# Altium integrated library ON Semi MOSFETs.IntLib: 1097 symbols (part 5 of 26)
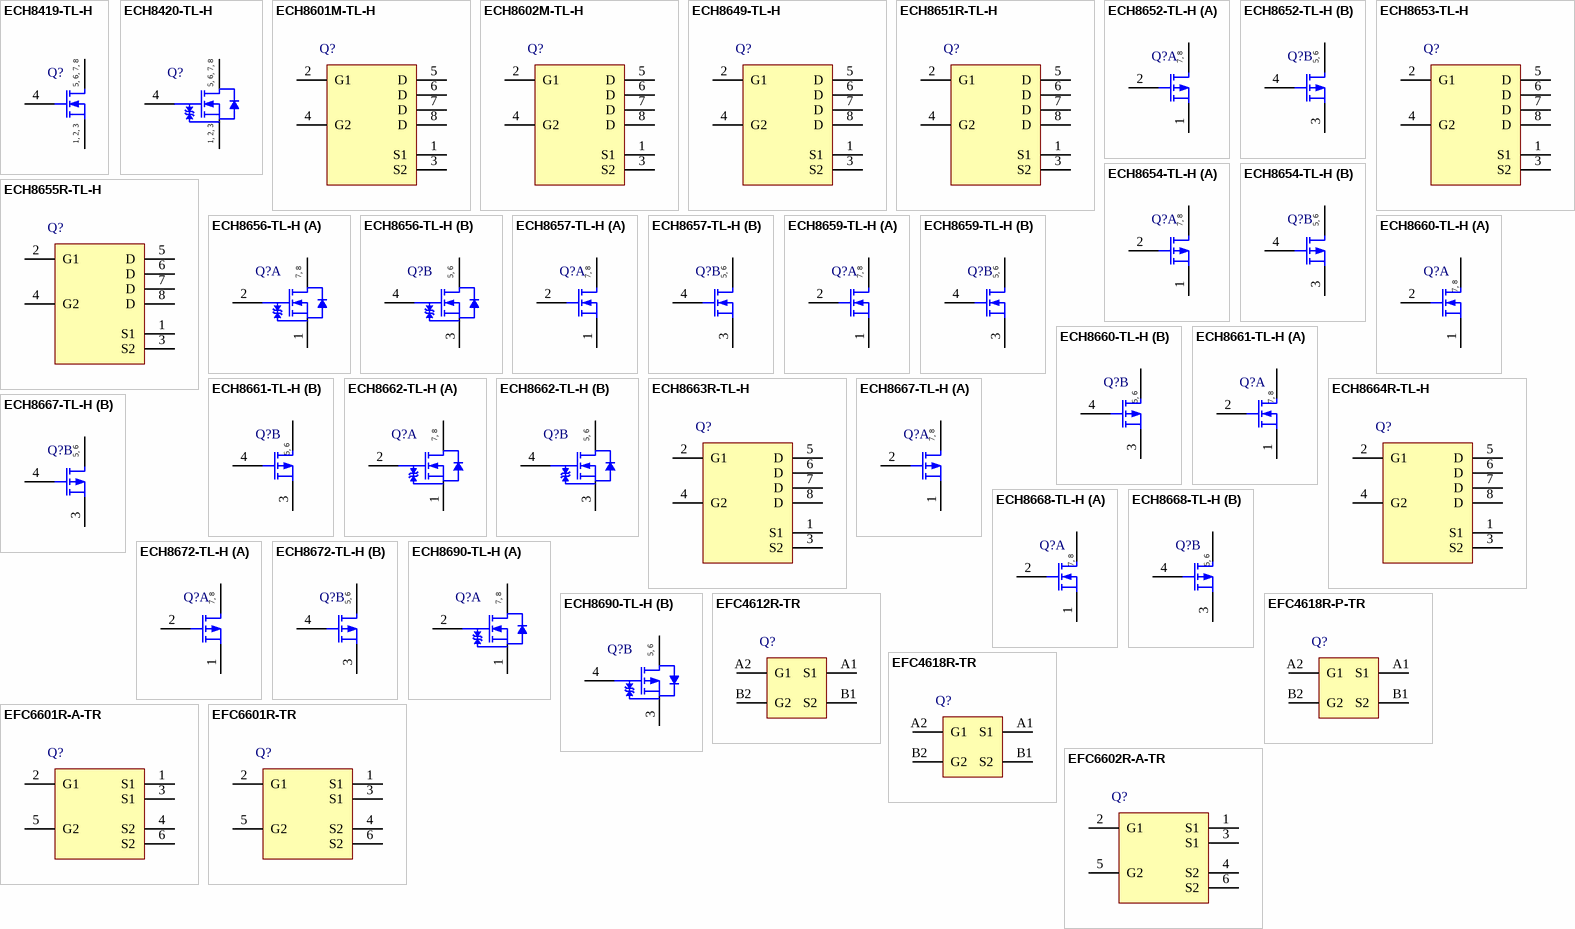
[diagram p35: symbols ECH8419-TL-H to EFC6602R-A-TR]

## ECH8653-TL-H
designator Q?
N-Channel Power MOSFET, 20 V, 7.5 A, 20 mOhm, Dual, 8-Pin ECH, Pb-Free, Tape and Reel; Manufacturer: On Semiconductor; PartNumber: ECH8653-TL-H; Channel Polarity: N Channel; Ciss Typ (pF): 1280; Coss Typ (pF): 170; Crss Typ (pF): 105; ID Max (A): 7.5; PD Max (W): 1.4; V(BR)DSS Min (V): 20; VGS Max (V): 10; VGS(th) Max (V): 2.4; PackageReference: ECH-8; PackageDescription: 8-Pin SOT23, Body 2.9 x 2.3 mm, Pitch 0.65 mm; Supplier 1: Digi-Key; Supplier Part Number 1: ECH8653-TL-H-ND; Supplier 2: Mouser; Supplier Part Number 2: 863-ECH8653-TL-H; Configuration: Dual; Package Type: SOT-28 FL / ECH-8; Packing: Tape and Reel; RoHS: Pb-Free; Mounting Technology: Surface Mount; ComponentLink1Description: Manufacturer URL; ComponentLink1URL: http://www.onsemi.com/; ComponentLink2Description: Datasheet; ComponentLink2URL: http://www.onsemi.com/pub_link/Collateral/ECH8653-D.PDF; ComponentLink3Description: Package Specification; ComponentLink3URL: http://www.onsemi.com/pub_link/Collateral/ECH8308-D.PDF
footprint ONSC-ECH-8_V (SOT23, 8-Leads, Body 2.9x2.3mm, Pitch 0.65mm)
pins: 1 S1, 2 G1, 3 S2, 4 G2, 5 D, 6 D, 7 D, 8 D

## ECH8654-TL-H
designator Q?
P-Channel Power MOSFET, -20 V, -5 A, 38 mOhm, Dual, 8-Pin ECH, Pb-Free, Tape and Reel; Manufacturer: On Semiconductor; PartNumber: ECH8654-TL-H; Channel Polarity: P Channel; Ciss Typ (pF): 960; Coss Typ (pF): 180; Crss Typ (pF): 140; ID Max (A): 5; PD Max (W): 1.3; V(BR)DSS Min (V): 20; VGS Max (V): 10; PackageReference: ECH-8; PackageDescription: 8-Pin SOT23, Body 2.9 x 2.3 mm, Pitch 0.65 mm; Supplier 1: Digi-Key; Supplier Part Number 1: 869-1159-2-ND; Supplier 2: Digi-Key; Supplier Part Number 2: 869-1159-1-ND; Supplier 3: Digi-Key; Supplier Part Number 3: 869-1159-6-ND; Supplier 4: Mouser; Supplier Part Number 4: 863-ECH8654-TL-H; Configuration: Dual; Package Type: SOT-28 FL / ECH-8; Packing: Tape and Reel; RoHS: Pb-Free; VGS(th) Max (V): 1.3; Mounting Technology: Surface Mount; ComponentLink1Description: Manufacturer URL; ComponentLink1URL: http://www.onsemi.com/; ComponentLink2Description: Datasheet; ComponentLink2URL: http://www.onsemi.com/pub_link/Collateral/ENA0981-D.PDF; ComponentLink3Description: Package Specification; ComponentLink3URL: http://www.onsemi.com/pub_link/Collateral/ECH8308-D.PDF
footprint ONSC-ECH-8_V (SOT23, 8-Leads, Body 2.9x2.3mm, Pitch 0.65mm)
part A pins: 1 S1, 2 G1, 7 D1, 8 D1
part B pins: 3 S2, 4 G2, 5 D2, 6 D2
part A text: 7, 8
part B text: 5, 6

## ECH8655R-TL-H
designator Q?
N-Channel Power MOSFET, 24 V, 9 A, 17 mOhm, Dual, 8-Pin ECH, Pb-Free, Tape and Reel; Manufacturer: On Semiconductor; PartNumber: ECH8655R-TL-H; Channel Polarity: N Channel; ID Max (A): 9; PD Max (W): 1.4; V(BR)DSS Min (V): 24; VGS Max (V): 12; VGS(th) Max (V): 1.3; PackageReference: ECH-8; PackageDescription: 8-Pin SOT23, Body 2.9 x 2.3 mm, Pitch 0.65 mm; Supplier 1: Digi-Key; Supplier Part Number 1: 869-1160-2-ND; Supplier 2: Digi-Key; Supplier Part Number 2: 869-1160-1-ND; Supplier 3: Digi-Key; Supplier Part Number 3: 869-1160-6-ND; Supplier 4: Mouser; Supplier Part Number 4: 863-ECH8655R-TL-H; Configuration: Dual; Package Type: SOT-28 FL / ECH-8; Packing: Tape and Reel; RoHS: Pb-Free; Mounting Technology: Surface Mount; ComponentLink1Description: Manufacturer URL; ComponentLink1URL: http://www.onsemi.com/; ComponentLink2Description: Datasheet; ComponentLink2URL: http://www.onsemi.com/pub_link/Collateral/ECH8655R-D.PDF; ComponentLink3Description: Package Specification; ComponentLink3URL: http://www.onsemi.com/pub_link/Collateral/ECH8308-D.PDF
footprint ONSC-ECH-8_V (SOT23, 8-Leads, Body 2.9x2.3mm, Pitch 0.65mm)
pins: 1 S1, 2 G1, 3 S2, 4 G2, 5 D, 6 D, 7 D, 8 D

## ECH8656-TL-H
designator Q?
N-Channel Power MOSFET, 20 V, 7.5 A, 17 mOhm, Dual, 8-Pin ECH, Pb-Free, Tape and Reel; Manufacturer: On Semiconductor; PartNumber: ECH8656-TL-H; Channel Polarity: N Channel; Ciss Typ (pF): 1060; Coss Typ (pF): 180; Crss Typ (pF): 135; ID Max (A): 7.5; PD Max (W): 1.3; V(BR)DSS Min (V): 20; VGS Max (V): 10; PackageReference: ECH-8; PackageDescription: 8-Pin SOT23, Body 2.9 x 2.3 mm, Pitch 0.65 mm; Supplier 1: Digi-Key; Supplier Part Number 1: ECH8656-TL-H-ND; Supplier 2: Mouser; Supplier Part Number 2: 863-ECH8656-TL-H; Configuration: Dual; Package Type: SOT-28 FL / ECH-8; Packing: Tape and Reel; RoHS: Pb-Free; VGS(th) Max (V): 1.3; Mounting Technology: Surface Mount; ComponentLink1Description: Manufacturer URL; ComponentLink1URL: http://www.onsemi.com/; ComponentLink2Description: Datasheet; ComponentLink2URL: http://www.onsemi.com/pub_link/Collateral/EN9010.PDF; ComponentLink3Description: Package Specification; ComponentLink3URL: http://www.onsemi.com/pub_link/Collateral/ECH8308-D.PDF
footprint ONSC-ECH-8_V (SOT23, 8-Leads, Body 2.9x2.3mm, Pitch 0.65mm)
part A pins: 1 S1, 2 G1, 7 D1, 8 D1
part B pins: 3 S2, 4 G2, 5 D2, 6 D2
part A text: 7, 8
part B text: 5, 6

## ECH8657-TL-H
designator Q?
N-Channel Power MOSFET, 35 V, 4.5 A, 59 mOhm, Dual, 8-Pin ECH, Pb-Free, Tape and Reel; Manufacturer: On Semiconductor; PartNumber: ECH8657-TL-H; Channel Polarity: N Channel; Ciss Typ (pF): 230; Coss Typ (pF): 37; Crss Typ (pF): 25; ID Max (A): 4.5; PD Max (W): 1.3; V(BR)DSS Min (V): 35; VGS Max (V): 20; VGS(th) Max (V): 2.6; PackageReference: ECH-8; PackageDescription: 8-Pin SOT23, Body 2.9 x 2.3 mm, Pitch 0.65 mm; Supplier 1: Digi-Key; Supplier Part Number 1: ECH8657-TL-H-ND; Supplier 2: Mouser; Supplier Part Number 2: 863-ECH8657-TL-H; Configuration: Dual; Package Type: SOT-28 FL / ECH-8; Packing: Tape and Reel; RoHS: Pb-Free; Mounting Technology: Surface Mount; ComponentLink1Description: Manufacturer URL; ComponentLink1URL: http://www.onsemi.com/; ComponentLink2Description: Datasheet; ComponentLink2URL: http://www.onsemi.com/pub_link/Collateral/ECH8657-D.PDF; ComponentLink3Description: Package Specification; ComponentLink3URL: http://www.onsemi.com/pub_link/Collateral/ECH8308-D.PDF
footprint ONSC-ECH-8_V (SOT23, 8-Leads, Body 2.9x2.3mm, Pitch 0.65mm)
part A pins: 1 S1, 2 G1, 7 D1, 8 D1
part B pins: 3 S2, 4 G2, 5 D2, 6 D2
part A text: 7, 8
part B text: 5, 6

## ECH8659-TL-H
designator Q?
N-Channel Power MOSFET, 30 V, 7 A, 24 mOhm, Dual, 8-Pin ECH, Pb-Free, Tape and Reel; Manufacturer: On Semiconductor; PartNumber: ECH8659-TL-H; Channel Polarity: N Channel; Ciss Typ (pF): 710; Coss Typ (pF): 120; Crss Typ (pF): 72; ID Max (A): 7; PD Max (W): 1.3; V(BR)DSS Min (V): 30; VGS Max (V): 20; VGS(th) Max (V): 2.6; PackageReference: ECH-8; PackageDescription: 8-Pin SOT23, Body 2.9 x 2.3 mm, Pitch 0.65 mm; Supplier 1: Digi-Key; Supplier Part Number 1: ECH8659-TL-H-ND; Supplier 2: Mouser; Supplier Part Number 2: 863-ECH8659-TL-H; Configuration: Dual; Package Type: SOT-28 FL / ECH-8; Packing: Tape and Reel; RoHS: Pb-Free; Mounting Technology: Surface Mount; ComponentLink1Description: Manufacturer URL; ComponentLink1URL: http://www.onsemi.com/; ComponentLink2Description: Datasheet; ComponentLink2URL: http://www.onsemi.com/pub_link/Collateral/ECH8659-D.PDF; ComponentLink3Description: Package Specification; ComponentLink3URL: http://www.onsemi.com/pub_link/Collateral/ECH8308-D.PDF
footprint ONSC-ECH-8_V (SOT23, 8-Leads, Body 2.9x2.3mm, Pitch 0.65mm)
part A pins: 1 S1, 2 G1, 7 D1, 8 D1
part B pins: 3 S2, 4 G2, 5 D2, 6 D2
part A text: 7, 8
part B text: 5, 6

## ECH8660-TL-H
designator Q?
Power MOSFET, 30 V, 4.5 A, 59 mOhm, -30 V, -4.5 A, 59 mOhm, Complementary Dual, 8-Pin ECH, Pb-Free, Tape and Reel; Manufacturer: On Semiconductor; PartNumber: ECH8660-TL-H; ID Max (A): 4.5; PD Max (W): 1.3; V(BR)DSS Min (V): 30; VGS Max (V): 20; PackageReference: ECH-8; PackageDescription: 8-Pin SOT23, Body 2.9 x 2.3 mm, Pitch 0.65 mm; Supplier 1: Digi-Key; Supplier Part Number 1: ECH8660-TL-H-ND; Supplier 2: Newark; Supplier Part Number 2: 52T7770; Supplier 3: Mouser; Supplier Part Number 3: 863-ECH8660-TL-H; Channel Polarity: Complementary; Configuration: Dual; Package Type: SOT-28 FL / ECH-8; Packing: Tape and Reel; RoHS: Pb-Free; Mounting Technology: Surface Mount; ComponentLink1Description: Manufacturer URL; ComponentLink1URL: http://www.onsemi.com/; ComponentLink2Description: Datasheet; ComponentLink2URL: http://www.onsemi.com/pub_link/Collateral/ECH8660-D.PDF; ComponentLink3Description: Package Specification; ComponentLink3URL: http://www.onsemi.com/pub_link/Collateral/ECH8308-D.PDF
footprint ONSC-ECH-8_V (SOT23, 8-Leads, Body 2.9x2.3mm, Pitch 0.65mm)
part A pins: 1 S1, 2 G1, 7 D1, 8 D1
part B pins: 3 S2, 4 G2, 5 D2, 6 D2
part A text: 7, 8
part B text: 5, 6

## ECH8661-TL-H
designator Q?
Power MOSFET, 30 V, 7 A, 24 mOhm, -30 V, -5.5 A, 39 mOhm, Complementary Dual, 8-Pin ECH, Pb-Free, Tape and Reel; Manufacturer: On Semiconductor; PartNumber: ECH8661-TL-H; PD Max (W): 1.3; V(BR)DSS Min (V): 30; VGS Max (V): 20; VGS(th) Max (V): 2.6; PackageReference: ECH-8; PackageDescription: 8-Pin SOT23, Body 2.9 x 2.3 mm, Pitch 0.65 mm; Supplier 1: Digi-Key; Supplier Part Number 1: ECH8661-TL-H-ND; Supplier 2: Mouser; Supplier Part Number 2: 863-ECH8661-TL-H; Channel Polarity: Complementary; Configuration: Dual; Package Type: SOT-28 FL / ECH-8; Packing: Tape and Reel; RoHS: Pb-Free; Mounting Technology: Surface Mount; ComponentLink1Description: Manufacturer URL; ComponentLink1URL: http://www.onsemi.com/; ComponentLink2Description: Datasheet; ComponentLink2URL: http://www.onsemi.com/pub_link/Collateral/ECH8661-D.PDF; ComponentLink3Description: Package Specification; ComponentLink3URL: http://www.onsemi.com/pub_link/Collateral/ECH8308-D.PDF
footprint ONSC-ECH-8_V (SOT23, 8-Leads, Body 2.9x2.3mm, Pitch 0.65mm)
part A pins: 1 S1, 2 G1, 7 D1, 8 D1
part B pins: 3 S2, 4 G2, 5 D2, 6 D2
part A text: 7, 8
part B text: 5, 6

## ECH8662-TL-H
designator Q?
N-Channel Power MOSFET, 40 V, 6.5 A, 30 mOhm, Dual, 8-Pin ECH, Pb-Free, Tape and Reel; Manufacturer: On Semiconductor; PartNumber: ECH8662-TL-H; Channel Polarity: N Channel; Ciss Typ (pF): 1130; Coss Typ (pF): 77; Crss Typ (pF): 60; ID Max (A): 6.5; PD Max (W): 1.3; V(BR)DSS Min (V): 40; VGS Max (V): 10; PackageReference: ECH-8; PackageDescription: 8-Pin SOT23, Body 2.9 x 2.3 mm, Pitch 0.65 mm; Supplier 1: Digi-Key; Supplier Part Number 1: ECH8662-TL-H-ND; Supplier 2: Mouser; Supplier Part Number 2: 863-ECH8662-TL-H; Configuration: Dual; Package Type: SOT-28 FL / ECH-8; Packing: Tape and Reel; RoHS: Pb-Free; VGS(th) Max (V): 1.3; Mounting Technology: Surface Mount; ComponentLink1Description: Manufacturer URL; ComponentLink1URL: http://www.onsemi.com/; ComponentLink2Description: Datasheet; ComponentLink2URL: http://www.onsemi.com/pub_link/Collateral/ECH8662-D.PDF; ComponentLink3Description: Package Specification; ComponentLink3URL: http://www.onsemi.com/pub_link/Collateral/ECH8308-D.PDF
footprint ONSC-ECH-8_V (SOT23, 8-Leads, Body 2.9x2.3mm, Pitch 0.65mm)
part A pins: 1 S1, 2 G1, 7 D1, 8 D1
part B pins: 3 S2, 4 G2, 5 D2, 6 D2
part A text: 7, 8
part B text: 5, 6

## ECH8663R-TL-H
designator Q?
N-Channel Power MOSFET, 30 V, 8 A, 20.5 mOhm, Dual, 8-Pin ECH, Pb-Free, Tape and Reel; Manufacturer: On Semiconductor; PartNumber: ECH8663R-TL-H; Channel Polarity: N Channel; ID Max (A): 8; PD Max (W): 1.4; V(BR)DSS Min (V): 30; VGS Max (V): 12; VGS(th) Max (V): 1.3; PackageReference: ECH-8; PackageDescription: 8-Pin SOT23, Body 2.9 x 2.3 mm, Pitch 0.65 mm; Supplier 1: Digi-Key; Supplier Part Number 1: ECH8663R-TL-H-ND; Supplier 2: Mouser; Supplier Part Number 2: 863-ECH8663R-TL-H; Configuration: Dual; Package Type: SOT-28 FL / ECH-8; Packing: Tape and Reel; RoHS: Pb-Free; Mounting Technology: Surface Mount; ComponentLink1Description: Manufacturer URL; ComponentLink1URL: http://www.onsemi.com/; ComponentLink2Description: Datasheet; ComponentLink2URL: http://www.onsemi.com/pub_link/Collateral/ENA1184-D.PDF; ComponentLink3Description: Package Specification; ComponentLink3URL: http://www.onsemi.com/pub_link/Collateral/ECH8308-D.PDF
footprint ONSC-ECH-8_V (SOT23, 8-Leads, Body 2.9x2.3mm, Pitch 0.65mm)
pins: 1 S1, 2 G1, 3 S2, 4 G2, 5 D, 6 D, 7 D, 8 D

## ECH8664R-TL-H
designator Q?
N-Channel Power MOSFET, 30 V, 7 A, 23.5 mOhm, Dual, 8-Pin ECH, Pb-Free, Tape and Reel; Manufacturer: On Semiconductor; PartNumber: ECH8664R-TL-H; Channel Polarity: N Channel; ID Max (A): 7; PD Max (W): 1.3; V(BR)DSS Min (V): 30; VGS Max (V): 12; PackageReference: ECH-8; PackageDescription: 8-Pin SOT23, Body 2.9 x 2.3 mm, Pitch 0.65 mm; Supplier 1: Digi-Key; Supplier Part Number 1: ECH8664R-TL-H-ND; Supplier 2: Mouser; Supplier Part Number 2: 863-ECH8664R-TL-H; Configuration: Dual; Package Type: SOT-28 FL / ECH-8; Packing: Tape and Reel; RoHS: Pb-Free; VGS(th) Max (V): 1.3; Mounting Technology: Surface Mount; ComponentLink1Description: Manufacturer URL; ComponentLink1URL: http://www.onsemi.com/; ComponentLink2Description: Datasheet; ComponentLink2URL: http://www.onsemi.com/pub_link/Collateral/ENA1185-D.PDF; ComponentLink3Description: Package Specification; ComponentLink3URL: http://www.onsemi.com/pub_link/Collateral/ECH8308-D.PDF
footprint ONSC-ECH-8_V (SOT23, 8-Leads, Body 2.9x2.3mm, Pitch 0.65mm)
pins: 1 S1, 2 G1, 3 S2, 4 G2, 5 D, 6 D, 7 D, 8 D

## ECH8667-TL-H
designator Q?
P-Channel Power MOSFET, -30 V, -5.5 A, 39 mOhm, Dual, 8-Pin ECH, Pb-Free, Tape and Reel; Manufacturer: On Semiconductor; PartNumber: ECH8667-TL-H; Channel Polarity: P Channel; Ciss Typ (pF): 600; Coss Typ (pF): 145; Crss Typ (pF): 110; ID Max (A): 5.5; PD Max (W): 1.3; V(BR)DSS Min (V): 30; VGS Max (V): 20; VGS(th) Max (V): 2.6; PackageReference: ECH-8; PackageDescription: 8-Pin SOT23, Body 2.9 x 2.3 mm, Pitch 0.65 mm; Supplier 1: Digi-Key; Supplier Part Number 1: ECH8667-TL-H-ND; Supplier 2: Mouser; Supplier Part Number 2: 863-ECH8667-TL-H; Configuration: Dual; Package Type: SOT-28 FL / ECH-8; Packing: Tape and Reel; RoHS: Pb-Free; Mounting Technology: Surface Mount; ComponentLink1Description: Manufacturer URL; ComponentLink1URL: http://www.onsemi.com/; ComponentLink2Description: Datasheet; ComponentLink2URL: http://www.onsemi.com/pub_link/Collateral/ECH8667-D.PDF; ComponentLink3Description: Package Specification; ComponentLink3URL: http://www.onsemi.com/pub_link/Collateral/ECH8308-D.PDF
footprint ONSC-ECH-8_V (SOT23, 8-Leads, Body 2.9x2.3mm, Pitch 0.65mm)
part A pins: 1 S1, 2 G1, 7 D1, 8 D1
part B pins: 3 S2, 4 G2, 5 D2, 6 D2
part A text: 7, 8
part B text: 5, 6

## ECH8668-TL-H
designator Q?
Power MOSFET, 20 V, 7.5 A, 17 mOhm, -20 V, -5 A, 38 mOhm, Complementary Dual, 8-Pin ECH, Pb-Free, Tape and Reel; Manufacturer: On Semiconductor; PartNumber: ECH8668-TL-H; PD Max (W): 1.3; V(BR)DSS Min (V): 20; VGS Max (V): 10; PackageReference: ECH-8; PackageDescription: 8-Pin SOT23, Body 2.9 x 2.3 mm, Pitch 0.65 mm; Supplier 1: Digi-Key; Supplier Part Number 1: ECH8668-TL-H-ND; Supplier 2: Mouser; Supplier Part Number 2: 863-ECH8668-TL-H; Channel Polarity: Complementary; Configuration: Dual; Package Type: SOT-28 FL / ECH-8; Packing: Tape and Reel; RoHS: Pb-Free; VGS(th) Max (V): 1.3; Mounting Technology: Surface Mount; ComponentLink1Description: Manufacturer URL; ComponentLink1URL: http://www.onsemi.com/; ComponentLink2Description: Datasheet; ComponentLink2URL: http://www.onsemi.com/pub_link/Collateral/ECH8668-D.PDF; ComponentLink3Description: Package Specification; ComponentLink3URL: http://www.onsemi.com/pub_link/Collateral/ECH8308-D.PDF
footprint ONSC-ECH-8_V (SOT23, 8-Leads, Body 2.9x2.3mm, Pitch 0.65mm)
part A pins: 1 S1, 2 G1, 7 D1, 8 D1
part B pins: 3 S2, 4 G2, 5 D2, 6 D2
part A text: 7, 8
part B text: 5, 6

## ECH8672-TL-H
designator Q?
P-Channel Power MOSFET, -20 V, -3.5 A, 85 mOhm, Dual, 8-Pin ECH, Pb-Free, Tape and Reel; Manufacturer: On Semiconductor; PartNumber: ECH8672-TL-H; Channel Polarity: P Channel; Ciss Typ (pF): 320; Coss Typ (pF): 66; Crss Typ (pF): 50; ID Max (A): 3.5; PD Max (W): 1.3; V(BR)DSS Min (V): 20; VGS Max (V): 10; PackageReference: ECH-8; PackageDescription: 8-Pin SOT23, Body 2.9 x 2.3 mm, Pitch 0.65 mm; Supplier 1: Digi-Key; Supplier Part Number 1: ECH8672-TL-H-ND; Supplier 2: Mouser; Supplier Part Number 2: 863-ECH8672-TL-H; Configuration: Dual; Package Type: SOT-28 FL / ECH-8; Packing: Tape and Reel; RoHS: Pb-Free; VGS(th) Max (V): 1.3; Mounting Technology: Surface Mount; ComponentLink1Description: Manufacturer URL; ComponentLink1URL: http://www.onsemi.com/; ComponentLink2Description: Datasheet; ComponentLink2URL: http://www.onsemi.com/pub_link/Collateral/ENA1465-D.PDF; ComponentLink3Description: Package Specification; ComponentLink3URL: http://www.onsemi.com/pub_link/Collateral/ECH8308-D.PDF
footprint ONSC-ECH-8_V (SOT23, 8-Leads, Body 2.9x2.3mm, Pitch 0.65mm)
part A pins: 1 S1, 2 G1, 7 D1, 8 D1
part B pins: 3 S2, 4 G2, 5 D2, 6 D2
part A text: 7, 8
part B text: 5, 6

## ECH8690-TL-H
designator Q?
Power MOSFET, 60 V, 4.7 A, 55 mOhm -60 V, -3.5 A, 94 mOhm Complememtary Dual, 8-Pin ECH, Pb-Free, Tape and Reel; Manufacturer: On Semiconductor; PartNumber: ECH8690-TL-H; Channel Polarity: Complementary; PD Max (W): 1.5; V(BR)DSS Min (V): 60; VGS Max (V): 20; VGS(th) Max (V): 2.6; PackageReference: ECH-8; PackageDescription: 8-Pin SOT23, Body 2.9 x 2.3 mm, Pitch 0.65 mm; Supplier 1: Newark; Supplier Part Number 1: 97W4990; Supplier 2: Mouser; Supplier Part Number 2: 863-ECH8690-TL-H; Configuration: Dual; Package Type: SOT-28 FL / ECH-8; Packing: Tape and Reel; RoHS: Pb-Free; Mounting Technology: Surface Mount; ComponentLink1Description: Manufacturer URL; ComponentLink1URL: http://www.onsemi.com/; ComponentLink2Description: Datasheet; ComponentLink2URL: http://www.onsemi.com/pub_link/Collateral/ENA2185-D.PDF; ComponentLink3Description: Package Specification; ComponentLink3URL: http://www.onsemi.com/pub_link/Collateral/ECH8308-D.PDF
footprint ONSC-ECH-8_V (SOT23, 8-Leads, Body 2.9x2.3mm, Pitch 0.65mm)
part A pins: 1 S1, 2 G1, 7 D1, 8 D1
part B pins: 3 S2, 4 G2, 5 D2, 6 D2
part A text: 7, 8
part B text: 5, 6

## EFC4612R-TR
designator Q?
N-Channel Power MOSFET, 24 V, 6 A, 45 mOhm, 4-Pin EFCP, Pb-Free, Tape and Reel; Manufacturer: On Semiconductor; PartNumber: EFC4612R-TR; Channel Polarity: N Channel; Configuration: Dual; V(BR)DSS Min (V): 24; VGS Max (V): 12; VGS(th) Max (V): 1.3; PackageVersion: Rev. O, 02/2012; PackageReference: EFCP1313-4CC-037-4-567DP; PackageDescription: 4-Ball Wafer Level Chip Scale Package, Body 1.26 x 1.26 mm, Pitch 0.65 mm; Supplier 1: Digi-Key; Supplier Part Number 1: EFC4612R-TR-ND; Supplier 2: Newark; Supplier Part Number 2: 65T1221; Supplier 3: Mouser; Supplier Part Number 3: 863-EFC4612R-TR; Package Type: WLCSP-4; Packing: Tape and Reel; RoHS: Pb-Free; Mounting Technology: Surface Mount; ComponentLink1Description: Manufacturer URL; ComponentLink1URL: http://www.onsemi.com/; ComponentLink2Description: Datasheet; ComponentLink2URL: http://www.onsemi.com/pub_link/Collateral/ENA1477-D.PDF; ComponentLink3Description: Package Specification; ComponentLink3URL: http://www.onsemi.com/pub_link/Collateral/567DP.PDF
footprint ONSC-EFCP1313-4CC-037-4-567DP (BGA, 4-Balls, Body 1.26x1.26mm, Pitch 0.65mm)
pins: A1 S1, A2 G1, B1 S2, B2 G2

## EFC4618R-P-TR
designator Q?
N-Channel Power MOSFET, 24 V, 6 A, 23 mOhm, 4-Pin EFCP, Pb-Free, Tape and Reel; Manufacturer: On Semiconductor; PartNumber: EFC4618R-P-TR; Channel Polarity: N Channel; Configuration: Dual; VGS Max (V): 12; VGS(th) Max (V): 1.3; PackageVersion: Rev. O, 02/2012; PackageReference: EFCP1818-4CC-037-4-567DK; PackageDescription: 4-Ball Wafer Level Chip Scale Package, Body 1.81 x 1.81 mm, Pitch 0.65 mm; Supplier 1: Mouser; Supplier Part Number 1: 863-EFC4618R-P-TR; Package Type: WLCSP-4; Packing: Tape and Reel; RoHS: Pb-Free; Mounting Technology: Surface Mount; ComponentLink1Description: Manufacturer URL; ComponentLink1URL: http://www.onsemi.com/; ComponentLink2Description: Datasheet; ComponentLink2URL: http://www.onsemi.com/pub_link/Collateral/ENA1123A-D.PDF; ComponentLink3Description: Package Specification; ComponentLink3URL: http://www.onsemi.com/pub_link/Collateral/567DK.PDF
footprint ONSC-EFCP1818-4CC-037-4-567DK_V (BGA, 4-Balls, Body 1.81x1.81mm, Pitch 0.65mm)
pins: A1 S1, A2 G1, B1 S2, B2 G2

## EFC4618R-TR
designator Q?
N-Channel Power MOSFET, 24 V, 6 A, 23 mOhm, 4-Pin EFCP, Pb-Free, Tape and Reel; Manufacturer: On Semiconductor; PartNumber: EFC4618R-TR; Channel Polarity: N Channel; Configuration: Dual; VGS Max (V): 12; VGS(th) Max (V): 1.3; PackageVersion: Rev. O, 02/2012; PackageReference: EFCP1818-4CC-037-4-567DK; PackageDescription: 4-Ball Wafer Level Chip Scale Package, Body 1.81 x 1.81 mm, Pitch 0.65 mm; Supplier 1: Digi-Key; Supplier Part Number 1: EFC4618R-TR-ND; Supplier 2: Mouser; Supplier Part Number 2: 863-EFC4618R-TR; Package Type: WLCSP-4; Packing: Tape and Reel; RoHS: Pb-Free; Mounting Technology: Surface Mount; ComponentLink1Description: Manufacturer URL; ComponentLink1URL: http://www.onsemi.com/; ComponentLink2Description: Datasheet; ComponentLink2URL: http://www.onsemi.com/pub_link/Collateral/ENA1123A-D.PDF; ComponentLink3Description: Package Specification; ComponentLink3URL: http://www.onsemi.com/pub_link/Collateral/567DK.PDF
footprint ONSC-EFCP1818-4CC-037-4-567DK_V (BGA, 4-Balls, Body 1.81x1.81mm, Pitch 0.65mm)
pins: A1 S1, A2 G1, B1 S2, B2 G2

## EFC6601R-A-TR
designator Q?
N-Channel Power MOSFET, 24 V, 13 A, 11.5 mOhm, 6-Pin EFCP, Pb-Free, Tape and Reel; Manufacturer: On Semiconductor; PartNumber: EFC6601R-A-TR; Channel Polarity: N Channel; Configuration: Dual; VGS Max (V): 12; VGS(th) Max (V): 1.3; PackageVersion: Rev. O, 05/2012; PackageReference: EFCP2718-6CE-020-6-567FK; PackageDescription: 6-Ball Wafer Level Chip Scale Package, Body 2.7 x 1.81 mm, Pitch 0.65 mm; Supplier 1: Newark; Supplier Part Number 1: 56W5203; Supplier 2: Mouser; Supplier Part Number 2: 863-EFC6601R-A-TR; Package Type: WLCSP-6; Packing: Tape and Reel; RoHS: Pb-Free; Mounting Technology: Surface Mount; ComponentLink1Description: Manufacturer URL; ComponentLink1URL: http://www.onsemi.com/; ComponentLink2Description: Datasheet; ComponentLink2URL: http://www.onsemi.com/pub_link/Collateral/ENA2151-D.PDF; ComponentLink3Description: Package Specification; ComponentLink3URL: http://www.onsemi.com/pub_link/Collateral/ENA2152-D.PDF
footprint ONSC-EFCP2718-6CE-020-6-567FK (BGA, 6-Balls, Body 2.7x1.81mm, Pitch 0.65mm)
pins: 1 S1, 2 G1, 3 S1, 4 S2, 5 G2, 6 S2

## EFC6601R-TR
designator Q?
N-Channel Power MOSFET, 24 V, 13 A, 11.5 mOhm, 6-Pin EFCP, Pb-Free, Tape and Reel; Manufacturer: On Semiconductor; PartNumber: EFC6601R-TR; Channel Polarity: N Channel; Configuration: Dual; VGS Max (V): 12; VGS(th) Max (V): 1.3; PackageVersion: Rev. O, 05/2012; PackageReference: EFCP2718-6CE-020-6-567FK; PackageDescription: 6-Ball Wafer Level Chip Scale Package, Body 2.7 x 1.81 mm, Pitch 0.65 mm; Supplier 1: Newark; Supplier Part Number 1: 56W5204; Supplier 2: Mouser; Supplier Part Number 2: 863-EFC6601R-TR; Package Type: WLCSP-6; Packing: Tape and Reel; RoHS: Pb-Free; Mounting Technology: Surface Mount; ComponentLink1Description: Manufacturer URL; ComponentLink1URL: http://www.onsemi.com/; ComponentLink2Description: Datasheet; ComponentLink2URL: http://www.onsemi.com/pub_link/Collateral/ENA2151-D.PDF; ComponentLink3Description: Package Specification; ComponentLink3URL: http://www.onsemi.com/pub_link/Collateral/ENA2152-D.PDF
footprint ONSC-EFCP2718-6CE-020-6-567FK (BGA, 6-Balls, Body 2.7x1.81mm, Pitch 0.65mm)
pins: 1 S1, 2 G1, 3 S1, 4 S2, 5 G2, 6 S2

## EFC6602R-A-TR
designator Q?
N-Channel Power MOSFET, 12 V, 18 A, 5.9 mOhm, 6-Pin EFCP, Pb-Free, Tape and Reel; Manufacturer: On Semiconductor; PartNumber: EFC6602R-A-TR; Channel Polarity: N Channel; Configuration: Dual; VGS Max (V): 12; VGS(th) Max (V): 1.3; PackageVersion: Rev. O, 05/2012; PackageReference: EFCP2718-6CE-020-6-567FK; PackageDescription: 6-Ball Wafer Level Chip Scale Package, Body 2.7 x 1.81 mm, Pitch 0.65 mm; Supplier 1: Newark; Supplier Part Number 1: 56W5205; Supplier 2: Mouser; Supplier Part Number 2: 863-EFC6602R-A-TR; Package Type: WLCSP-6; Packing: Tape and Reel; RoHS: Pb-Free; Mounting Technology: Surface Mount; ComponentLink1Description: Manufacturer URL; ComponentLink1URL: http://www.onsemi.com/; ComponentLink2Description: Datasheet; ComponentLink2URL: http://www.onsemi.com/pub_link/Collateral/ENA2152-D.PDF; ComponentLink3Description: Package Specification; ComponentLink3URL: http://www.onsemi.com/pub_link/Collateral/ENA2152-D.PDF
footprint ONSC-EFCP2718-6CE-020-6-567FK (BGA, 6-Balls, Body 2.7x1.81mm, Pitch 0.65mm)
pins: 1 S1, 2 G1, 3 S1, 4 S2, 5 G2, 6 S2

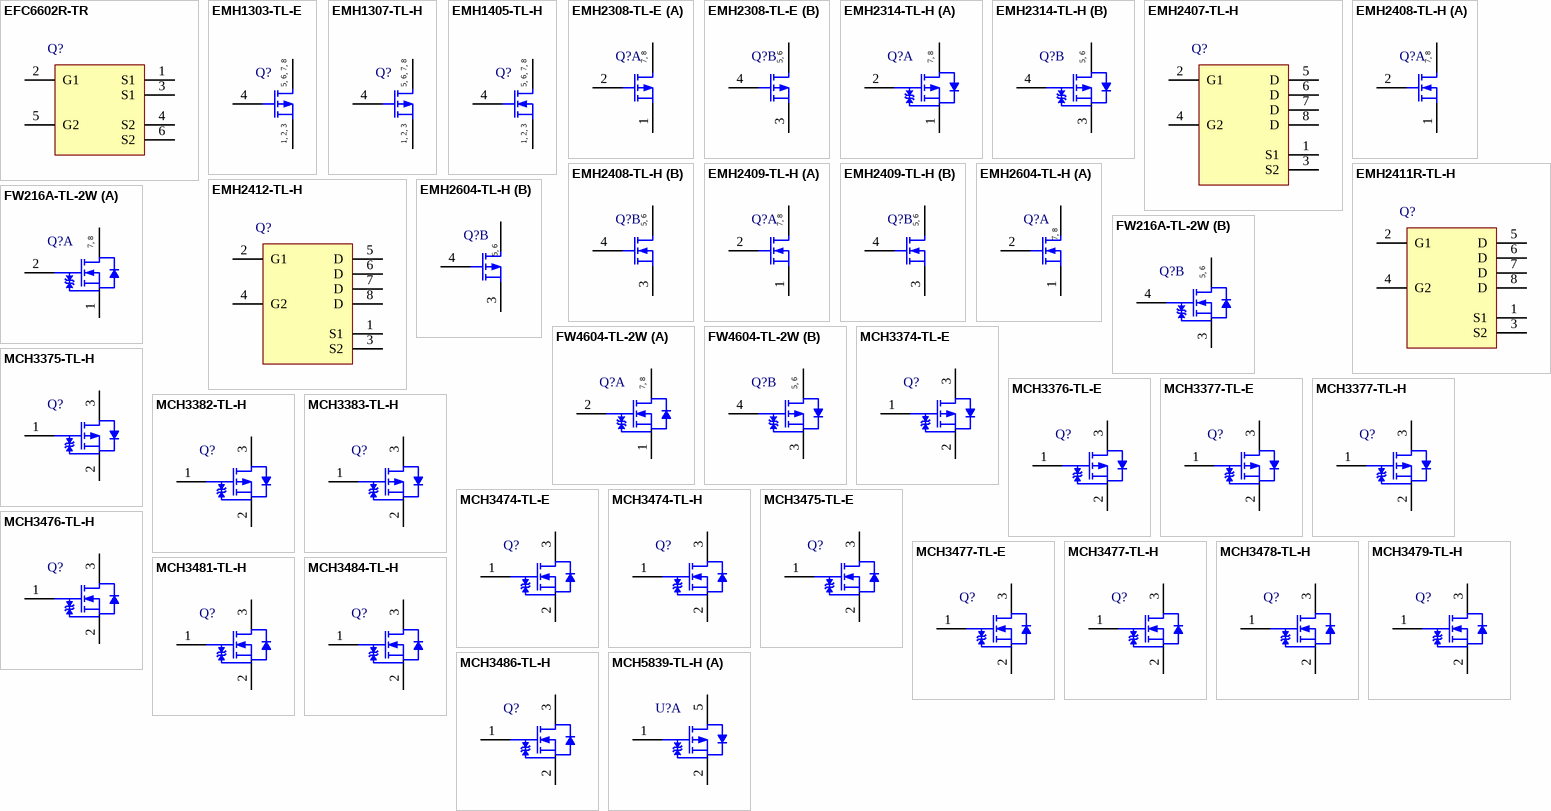
[diagram p5: symbols EFC6602R-TR to MCH5839-TL-H]

## EFC6602R-TR
designator Q?
N-Channel Power MOSFET, 12 V, 18 A, 5.9 mOhm, 6-Pin EFCP, Pb-Free, Tape and Reel; Manufacturer: On Semiconductor; PartNumber: EFC6602R-TR; Channel Polarity: N Channel; Configuration: Dual; VGS Max (V): 12; VGS(th) Max (V): 1.3; PackageVersion: Rev. O, 05/2012; PackageReference: EFCP2718-6CE-020-6-567FK; PackageDescription: 6-Ball Wafer Level Chip Scale Package, Body 2.7 x 1.81 mm, Pitch 0.65 mm; Supplier 1: Newark; Supplier Part Number 1: 45W8151; Supplier 2: Mouser; Supplier Part Number 2: 863-EFC6602R-TR; Package Type: WLCSP-6; Packing: Tape and Reel; RoHS: Pb-Free; Mounting Technology: Surface Mount; ComponentLink1Description: Manufacturer URL; ComponentLink1URL: http://www.onsemi.com/; ComponentLink2Description: Datasheet; ComponentLink2URL: http://www.onsemi.com/pub_link/Collateral/ENA2152-D.PDF; ComponentLink3Description: Package Specification; ComponentLink3URL: http://www.onsemi.com/pub_link/Collateral/ENA2152-D.PDF
footprint ONSC-EFCP2718-6CE-020-6-567FK (BGA, 6-Balls, Body 2.7x1.81mm, Pitch 0.65mm)
pins: 1 S1, 2 G1, 3 S1, 4 S2, 5 G2, 6 S2

## EMH1303-TL-E
designator Q?
P-Channel Power MOSFET, -12 V, -7 A, 23 mOhm, 8-Pin EMH, Pb-Free, Tape and Reel; Manufacturer: On Semiconductor; PartNumber: EMH1303-TL-E; Channel Polarity: P Channel; Ciss Typ (pF): 1100; Configuration: Single; Coss Typ (pF): 350; Crss Typ (pF): 265; ID Max (A): 7; PD Max (W): 1.5; V(BR)DSS Min (V): 12; VGS Max (V): 10; VGS(th) Max (V): 1.2; PackageReference: EMH-8; PackageDescription: 8-Pin SOT23, Body 2 x 1.7 mm, Pitch 0.5 mm; Supplier 1: Digi-Key; Supplier Part Number 1: EMH1303-TL-E-ND; Supplier 2: Mouser; Supplier Part Number 2: 863-EMH1303-TL-E; Package Type: SOT-383FL / EMH-8; Packing: Tape and Reel; RoHS: Pb-Free; Mounting Technology: Surface Mount; ComponentLink1Description: Manufacturer URL; ComponentLink1URL: http://www.onsemi.com/; ComponentLink2Description: Datasheet; ComponentLink2URL: http://www.onsemi.com/pub_link/Collateral/EMH1303-D.PDF; ComponentLink3Description: Package Specification; ComponentLink3URL: http://www.onsemi.com/pub_link/Collateral/EMH1303-D.PDF
footprint ONSC-EMH-8_V (SOT23, 8-Leads, Body 2x1.7mm, Pitch 0.5mm)
pins: 1 S, 2 S, 3 S, 4 G, 5 D, 6 D, 7 D, 8 D
text: 5, 6, 7, 8; 1, 2, 3

## EMH1307-TL-H
designator Q?
P-Channel Power MOSFET, -20 V, -6.5 A, 26 mOhm, 8-Pin EMH, Pb-Free, Tape and Reel; Manufacturer: On Semiconductor; PartNumber: EMH1307-TL-H; Channel Polarity: P Channel; Ciss Typ (pF): 1100; Configuration: Single; Coss Typ (pF): 210; Crss Typ (pF): 160; ID Max (A): 6.5; PD Max (W): 1.5; V(BR)DSS Min (V): 20; VGS Max (V): 10; VGS(th) Max (V): 1.3; PackageReference: EMH-8; PackageDescription: 8-Pin SOT23, Body 2 x 1.7 mm, Pitch 0.5 mm; Supplier 1: Digi-Key; Supplier Part Number 1: EMH1307-TL-H-ND; Supplier 2: Mouser; Supplier Part Number 2: 863-EMH1307-TL-H; Package Type: SOT-383FL / EMH-8; Packing: Tape and Reel; RoHS: Pb-Free; Mounting Technology: Surface Mount; ComponentLink1Description: Manufacturer URL; ComponentLink1URL: http://www.onsemi.com/; ComponentLink2Description: Datasheet; ComponentLink2URL: http://www.onsemi.com/pub_link/Collateral/EMH1307-D.PDF; ComponentLink3Description: Package Specification; ComponentLink3URL: http://www.onsemi.com/pub_link/Collateral/EMH1303-D.PDF
footprint ONSC-EMH-8_V (SOT23, 8-Leads, Body 2x1.7mm, Pitch 0.5mm)
pins: 1 S, 2 S, 3 S, 4 G, 5 D, 6 D, 7 D, 8 D
text: 5, 6, 7, 8; 1, 2, 3

## EMH1405-TL-H
designator Q?
N-Channel Power MOSFET, 30 V, 8.5 A, 19 mOhm, 8-Pin EMH, Pb-Free, Tape and Reel; Manufacturer: On Semiconductor; PartNumber: EMH1405-TL-H; Channel Polarity: N Channel; Ciss Typ (pF): 820; Configuration: Single; Coss Typ (pF): 130; Crss Typ (pF): 90; ID Max (A): 8.5; PD Max (W): 1.5; V(BR)DSS Min (V): 30; VGS Max (V): 20; VGS(th) Max (V): 2.6; PackageReference: EMH-8; PackageDescription: 8-Pin SOT23, Body 2 x 1.7 mm, Pitch 0.5 mm; Supplier 1: Digi-Key; Supplier Part Number 1: EMH1405-TL-H-ND; Supplier 2: Mouser; Supplier Part Number 2: 863-EMH1405-TL-H; Package Type: SOT-383FL / EMH-8; Packing: Tape and Reel; RoHS: Pb-Free; Mounting Technology: Surface Mount; ComponentLink1Description: Manufacturer URL; ComponentLink1URL: http://www.onsemi.com/; ComponentLink2Description: Datasheet; ComponentLink2URL: http://www.onsemi.com/pub_link/Collateral/EMH1405-D.PDF; ComponentLink3Description: Package Specification; ComponentLink3URL: http://www.onsemi.com/pub_link/Collateral/EMH1303-D.PDF
footprint ONSC-EMH-8_V (SOT23, 8-Leads, Body 2x1.7mm, Pitch 0.5mm)
pins: 1 S, 2 S, 3 S, 4 G, 5 D, 6 D, 7 D, 8 D
text: 5, 6, 7, 8; 1, 2, 3

## EMH2308-TL-E
designator Q?
P-Channel Power MOSFET, -20 V, -3 A, 85 mOhm, 8-Pin EMH, Pb-Free, Tape and Reel; Manufacturer: On Semiconductor; PartNumber: EMH2308-TL-E; Channel Polarity: P Channel; Ciss Typ (pF): 320; Configuration: Dual; Coss Typ (pF): 66; Crss Typ (pF): 50; ID Max (A): 3; PD Max (W): 1; V(BR)DSS Min (V): 20; VGS Max (V): 10; VGS(th) Max (V): 1.3; PackageReference: EMH-8; PackageDescription: 8-Pin SOT23, Body 2 x 1.7 mm, Pitch 0.5 mm; Supplier 1: Digi-Key; Supplier Part Number 1: EMH2308-TL-E-ND; Supplier 2: Mouser; Supplier Part Number 2: 863-EMH2308-TL-E; Package Type: SOT-383FL / EMH-8; Packing: Tape and Reel; RoHS: Pb-Free; Mounting Technology: Surface Mount; ComponentLink1Description: Manufacturer URL; ComponentLink1URL: http://www.onsemi.com/; ComponentLink2Description: Datasheet; ComponentLink2URL: http://www.onsemi.com/pub_link/Collateral/EMH2308-D.PDF; ComponentLink3Description: Package Specification; ComponentLink3URL: http://www.onsemi.com/pub_link/Collateral/EMH1303-D.PDF
footprint ONSC-EMH-8_V (SOT23, 8-Leads, Body 2x1.7mm, Pitch 0.5mm)
part A pins: 1 S1, 2 G1, 7 D1, 8 D1
part B pins: 3 S2, 4 G2, 5 D2, 6 D2
part A text: 7, 8
part B text: 5, 6

## EMH2314-TL-H
designator Q?
P-Channel Power MOSFET, -12 V, -5 A, 37 mOhm, 8-Pin EMH, Pb-Free, Tape and Reel; Manufacturer: On Semiconductor; PartNumber: EMH2314-TL-H; Channel Polarity: P Channel; Ciss Typ (pF): 1300; Configuration: Dual; Coss Typ (pF): 158; Crss Typ (pF): 143; ID Max (A): 5; PD Max (W): 1; V(BR)DSS Min (V): 12; VGS Max (V): 10; VGS(th) Max (V): 1.3; PackageReference: EMH-8; PackageDescription: 8-Pin SOT23, Body 2 x 1.7 mm, Pitch 0.5 mm; Supplier 1: Digi-Key; Supplier Part Number 1: EMH2314-TL-H-ND; Supplier 2: Mouser; Supplier Part Number 2: 863-EMH2314-TL-H; Package Type: SOT-383FL / EMH-8; Packing: Tape and Reel; RoHS: Pb-Free; Mounting Technology: Surface Mount; ComponentLink1Description: Manufacturer URL; ComponentLink1URL: http://www.onsemi.com/; ComponentLink2Description: Datasheet; ComponentLink2URL: http://www.onsemi.com/pub_link/Collateral/EN8759-D.PDF; ComponentLink3Description: Package Specification; ComponentLink3URL: http://www.onsemi.com/pub_link/Collateral/EMH1303-D.PDF
footprint ONSC-EMH-8_V (SOT23, 8-Leads, Body 2x1.7mm, Pitch 0.5mm)
part A pins: 1 S1, 2 G1, 7 D1, 8 D1
part B pins: 3 S2, 4 G2, 5 D2, 6 D2
part A text: 7, 8
part B text: 5, 6

## EMH2407-TL-H
designator Q?
N-Channel Power MOSFET, 20 V, 6 A, 25 mOhm, 8-Pin EMH, Pb-Free, Tape and Reel; Manufacturer: On Semiconductor; PartNumber: EMH2407-TL-H; Channel Polarity: N Channel; Ciss Typ (pF): 580; Configuration: Dual; Coss Typ (pF): 95; Crss Typ (pF): 75; ID Max (A): 6; PD Max (W): 1.3; V(BR)DSS Min (V): 20; VGS Max (V): 12; PackageReference: EMH-8; PackageDescription: 8-Pin SOT23, Body 2 x 1.7 mm, Pitch 0.5 mm; Supplier 1: Digi-Key; Supplier Part Number 1: EMH2407-TL-H-ND; Supplier 2: Mouser; Supplier Part Number 2: 863-EMH2407-TL-H; Package Type: SOT-383FL / EMH-8; Packing: Tape and Reel; RoHS: Pb-Free; VGS(th) Max (V): 1.3; Mounting Technology: Surface Mount; ComponentLink1Description: Manufacturer URL; ComponentLink1URL: http://www.onsemi.com/; ComponentLink2Description: Datasheet; ComponentLink2URL: http://www.onsemi.com/pub_link/Collateral/ENA1141-D.PDF; ComponentLink3Description: Package Specification; ComponentLink3URL: http://www.onsemi.com/pub_link/Collateral/EMH1303-D.PDF
footprint ONSC-EMH-8_V (SOT23, 8-Leads, Body 2x1.7mm, Pitch 0.5mm)
pins: 1 S1, 2 G1, 3 S2, 4 G2, 5 D, 6 D, 7 D, 8 D

## EMH2408-TL-H
designator Q?
N-Channel Power MOSFET, 20 V, 4 A, 45 mOhm, 8-Pin EMH, Pb-Free, Tape and Reel; Manufacturer: On Semiconductor; PartNumber: EMH2408-TL-H; Channel Polarity: N Channel; Ciss Typ (pF): 345; Configuration: Dual; Coss Typ (pF): 67; Crss Typ (pF): 52; ID Max (A): 4; PD Max (W): 1; V(BR)DSS Min (V): 20; VGS Max (V): 12; VGS(th) Max (V): 1.3; PackageReference: EMH-8; PackageDescription: 8-Pin SOT23, Body 2 x 1.7 mm, Pitch 0.5 mm; Supplier 1: Digi-Key; Supplier Part Number 1: EMH2408-TL-H-ND; Supplier 2: Mouser; Supplier Part Number 2: 863-EMH2408-TL-H; Package Type: SOT-383FL / EMH-8; Packing: Tape and Reel; RoHS: Pb-Free; Mounting Technology: Surface Mount; ComponentLink1Description: Manufacturer URL; ComponentLink1URL: http://www.onsemi.com/; ComponentLink2Description: Datasheet; ComponentLink2URL: http://www.onsemi.com/pub_link/Collateral/EMH2408-D.PDF; ComponentLink3Description: Package Specification; ComponentLink3URL: http://www.onsemi.com/pub_link/Collateral/EMH1303-D.PDF
footprint ONSC-EMH-8_V (SOT23, 8-Leads, Body 2x1.7mm, Pitch 0.5mm)
part A pins: 1 S1, 2 G1, 7 D1, 8 D1
part B pins: 3 S2, 4 G2, 5 D2, 6 D2
part A text: 7, 8
part B text: 5, 6

## EMH2409-TL-H
designator Q?
N-Channel Power MOSFET, 30 V, 4 A, 59 mOhm, 8-Pin EMH, Pb-Free, Tape and Reel; Manufacturer: On Semiconductor; PartNumber: EMH2409-TL-H; Channel Polarity: N Channel; Ciss Typ (pF): 240; Configuration: Dual; Coss Typ (pF): 45; Crss Typ (pF): 30; ID Max (A): 4; PD Max (W): 1; VGS Max (V): 20; VGS(th) Max (V): 2.6; PackageReference: EMH-8; PackageDescription: 8-Pin SOT23, Body 2 x 1.7 mm, Pitch 0.5 mm; Supplier 1: Digi-Key; Supplier Part Number 1: EMH2409-TL-H-ND; Supplier 2: Mouser; Supplier Part Number 2: 863-EMH2409-TL-H; Package Type: SOT-383FL / EMH-8; Packing: Tape and Reel; RoHS: Pb-Free; V(BR)DSS Min (V): 30; Mounting Technology: Surface Mount; ComponentLink1Description: Manufacturer URL; ComponentLink1URL: http://www.onsemi.com/; ComponentLink2Description: Datasheet; ComponentLink2URL: http://www.onsemi.com/pub_link/Collateral/EMH2409-D.PDF; ComponentLink3Description: Package Specification; ComponentLink3URL: http://www.onsemi.com/pub_link/Collateral/EMH1303-D.PDF
footprint ONSC-EMH-8_V (SOT23, 8-Leads, Body 2x1.7mm, Pitch 0.5mm)
part A pins: 1 S1, 2 G1, 7 D1, 8 D1
part B pins: 3 S2, 4 G2, 5 D2, 6 D2
part A text: 7, 8
part B text: 5, 6

## EMH2411R-TL-H
designator Q?
N-Channel Power MOSFET, 30 V, 5 A, 36.5 Ohm, 8-Pin EMH, Pb-Free, Tape and Reel; Manufacturer: On Semiconductor; PartNumber: EMH2411R-TL-H; Channel Polarity: N Channel; Configuration: Dual; ID Max (A): 5; PD Max (W): 1.3; V(BR)DSS Min (V): 30; VGS Max (V): 12; PackageReference: EMH-8; PackageDescription: 8-Pin SOT23, Body 2 x 1.7 mm, Pitch 0.5 mm; Supplier 1: Digi-Key; Supplier Part Number 1: EMH2411R-TL-H-ND; Supplier 2: Mouser; Supplier Part Number 2: 863-EMH2411R-TL-H; Package Type: SOT-383FL / EMH-8; Packing: Tape and Reel; RoHS: Pb-Free; VGS(th) Max (V): 1.3; Mounting Technology: Surface Mount; ComponentLink1Description: Manufacturer URL; ComponentLink1URL: http://www.onsemi.com/; ComponentLink2Description: Datasheet; ComponentLink2URL: http://www.onsemi.com/pub_link/Collateral/ENA1421-D.PDF; ComponentLink3Description: Package Specification; ComponentLink3URL: http://www.onsemi.com/pub_link/Collateral/EMH1303-D.PDF
footprint ONSC-EMH-8_V (SOT23, 8-Leads, Body 2x1.7mm, Pitch 0.5mm)
pins: 1 S1, 2 G1, 3 S2, 4 G2, 5 D, 6 D, 7 D, 8 D

## EMH2412-TL-H
designator Q?
N-Channel Power MOSFET, 24 V, 6 A, 27 mOhm, 8-Pin EMH, Pb-Free, Tape and Reel; Manufacturer: On Semiconductor; PartNumber: EMH2412-TL-H; Channel Polarity: N Channel; Configuration: Dual; ID Max (A): 6; PD Max (W): 1.3; V(BR)DSS Min (V): 24; VGS Max (V): 12; PackageReference: EMH-8; PackageDescription: 8-Pin SOT23, Body 2 x 1.7 mm, Pitch 0.5 mm; Supplier 1: Digi-Key; Supplier Part Number 1: EMH2412-TL-H-ND; Supplier 2: Mouser; Supplier Part Number 2: 863-EMH2412-TL-H; Package Type: SOT-383FL / EMH-8; Packing: Tape and Reel; RoHS: Pb-Free; VGS(th) Max (V): 1.3; Mounting Technology: Surface Mount; ComponentLink1Description: Manufacturer URL; ComponentLink1URL: http://www.onsemi.com/; ComponentLink2Description: Datasheet; ComponentLink2URL: http://www.onsemi.com/pub_link/Collateral/EMH2412-D.PDF; ComponentLink3Description: Package Specification; ComponentLink3URL: http://www.onsemi.com/pub_link/Collateral/EMH1303-D.PDF
footprint ONSC-EMH-8_V (SOT23, 8-Leads, Body 2x1.7mm, Pitch 0.5mm)
pins: 1 S1, 2 G1, 3 S2, 4 G2, 5 D, 6 D, 7 D, 8 D

## EMH2604-TL-H
designator Q?
Power MOSFET, 20 V, 4 A, 45 mOhm, -20 V, -3 A, 85 mOhm, 8-Pin EMH, Pb-Free, Tape and Reel; Manufacturer: On Semiconductor; PartNumber: EMH2604-TL-H; Channel Polarity: Complementary; Configuration: Dual; PD Max (W): 1; V(BR)DSS Min (V): 20; VGS Max (V): 10; VGS(th) Max (V): 1.3; PackageReference: EMH-8; PackageDescription: 8-Pin SOT23, Body 2 x 1.7 mm, Pitch 0.5 mm; Supplier 1: Digi-Key; Supplier Part Number 1: EMH2604-TL-H-ND; Supplier 2: Mouser; Supplier Part Number 2: 863-EMH2604-TL-H; Package Type: SOT-383FL / EMH-8; Packing: Tape and Reel; RoHS: Pb-Free; Mounting Technology: Surface Mount; ComponentLink1Description: Manufacturer URL; ComponentLink1URL: http://www.onsemi.com/; ComponentLink2Description: Datasheet; ComponentLink2URL: http://www.onsemi.com/pub_link/Collateral/EMH2604-D.PDF; ComponentLink3Description: Package Specification; ComponentLink3URL: http://www.onsemi.com/pub_link/Collateral/EMH1303-D.PDF
footprint ONSC-EMH-8_V (SOT23, 8-Leads, Body 2x1.7mm, Pitch 0.5mm)
part A pins: 1 S1, 2 G1, 7 D1, 8 D1
part B pins: 3 S2, 4 G2, 5 D2, 6 D2
part A text: 7, 8
part B text: 5, 6

## FW216A-TL-2W
designator Q?
N-Channel Power MOSFET, 35 V, 4.5 A, 64 mOhm, 8-Pin SOIC, Pb-Free, Tape and Reel; Manufacturer: On Semiconductor; PartNumber: FW216A-TL-2W; Channel Polarity: N Channel; Ciss Typ (pF): 280; Configuration: Dual; Coss Typ (pF): 60; Crss Typ (pF): 30; ID Max (A): 4.5; PD Max (W): 1.6; V(BR)DSS Min (V): 35; VGS Max (V): 20; VGS(th) Max (V): 2.5; PackageReference: SOIC-8-C; PackageDescription: 8-Pin Small Outline Integrated Circuit, Body 4.9 x 3.9 mm, Pitch 1.27 mm; Package Type: SOIC8-NB EP; Packing: Tape and Reel; RoHS: Pb-Free; Mounting Technology: Surface Mount; ComponentLink1Description: Manufacturer URL; ComponentLink1URL: http://www.onsemi.com/; ComponentLink2Description: Datasheet; ComponentLink2URL: http://www.onsemi.com/pub_link/Collateral/ENA0176-D.PDF; ComponentLink3Description: Package Specification; ComponentLink3URL: http://www.onsemi.com/pub_link/Collateral/ENA1067-D.PDF
footprint ONSC-SOIC-8-C_V (SOIC, 8-Leads, Body 4.9x3.9mm, Pitch 1.27mm)
part A pins: 1 S1, 2 G1, 7 D1, 8 D1
part B pins: 3 S2, 4 G2, 5 D2, 6 D2
part A text: 7, 8
part B text: 5, 6

## FW4604-TL-2W
designator Q?
N-Channel Power MOSFET, 30 V, 6 A, 39 mOhm, 8-Pin SOIC, Pb-Free, Tape and Reel; Manufacturer: On Semiconductor; PartNumber: FW4604-TL-2W; Channel Polarity: Complementary; Configuration: Dual; PD Max (W): 1.8; V(BR)DSS Min (V): 30; VGS Max (V): 20; VGS(th) Max (V): 2.6; PackageReference: SOIC-8-C; PackageDescription: 8-Pin Small Outline Integrated Circuit, Body 4.9 x 3.9 mm, Pitch 1.27 mm; Package Type: SOIC-8; Packing: Tape and Reel; RoHS: Pb-Free; Mounting Technology: Surface Mount; ComponentLink1Description: Manufacturer URL; ComponentLink1URL: http://www.onsemi.com/; ComponentLink2Description: Datasheet; ComponentLink2URL: http://www.onsemi.com/pub_link/Collateral/ENA0273-D.PDF; ComponentLink3Description: Package Specification; ComponentLink3URL: http://www.onsemi.com/pub_link/Collateral/ENA1067-D.PDF
footprint ONSC-SOIC-8-C_V (SOIC, 8-Leads, Body 4.9x3.9mm, Pitch 1.27mm)
part A pins: 1 S1, 2 G1, 7 D1, 8 D1
part B pins: 3 S2, 4 G2, 5 D2, 6 D2
part A text: 7, 8
part B text: 5, 6

## MCH3374-TL-E
designator Q?
P-Channel Power MOSFET, -12 V, -3 A, 70 mOhm, 3-Pin MCPH, Pb-Free, Tape and Reel; Manufacturer: On Semiconductor; PartNumber: MCH3374-TL-E; Channel Polarity: P Channel; Ciss Typ (pF): 405; Configuration: Single; Coss Typ (pF): 145; Crss Typ (pF): 100; ID Max (A): 3; PD Max (W): 1; V(BR)DSS Min (V): 12; VGS Max (V): 8; VGS(th) Max (V): 1.4; PackageReference: MCPH-3; PackageDescription: 3-Pin Small Outline Transistor, Body 2 x 1.6 mm, Pitch 0.65 mm; Supplier 1: Digi-Key; Supplier Part Number 1: MCH3374-TL-E-ND; Supplier 2: Mouser; Supplier Part Number 2: 863-MCH3374-TL-E; Package Type: SC-70FL / MCPH-3; Packing: Tape and Reel; RoHS: Pb-Free; Mounting Technology: Surface Mount; ComponentLink1Description: Manufacturer URL; ComponentLink1URL: http://www.onsemi.com/; ComponentLink2Description: Datasheet; ComponentLink2URL: http://www.onsemi.cn/pub_link/Collateral/MCH3374-D.PDF; ComponentLink3Description: Package Specification; ComponentLink3URL: http://www.onsemi.com/pub_link/Collateral/EN7354-D.PDF
footprint ONSC-MCPH-3_V (SOT23, 3-Leads, Body 2x1.6mm, Pitch 0.65mm)
pins: 1 G, 2 S, 3 D

## MCH3375-TL-H
designator Q?
P-Channel Power MOSFET, -30 V, -1.6 A, 295 mOhm, 3-Pin MCPH, Pb-Free, Tape and Reel; Manufacturer: On Semiconductor; PartNumber: MCH3375-TL-H; Channel Polarity: P Channel; Ciss Typ (pF): 82; Configuration: Single; Coss Typ (pF): 22; Crss Typ (pF): 16; ID Max (A): 1.6; PD Max (W): 0.8; V(BR)DSS Min (V): 30; VGS Max (V): 20; VGS(th) Max (V): 2.6; PackageReference: MCPH-3; PackageDescription: 3-Pin Small Outline Transistor, Body 2 x 1.6 mm, Pitch 0.65 mm; Supplier 1: Digi-Key; Supplier Part Number 1: MCH3375-TL-H-ND; Supplier 2: Newark; Supplier Part Number 2: 07W7065; Supplier 3: Mouser; Supplier Part Number 3: 863-MCH3375-TL-H; Package Type: SC-70FL / MCPH-3; Packing: Tape and Reel; RoHS: Pb-Free; Mounting Technology: Surface Mount; ComponentLink1Description: Manufacturer URL; ComponentLink1URL: http://www.onsemi.com/; ComponentLink2Description: Datasheet; ComponentLink2URL: http://www.onsemi.com/pub_link/Collateral/ENA0342-D.PDF; ComponentLink3Description: Package Specification; ComponentLink3URL: http://www.onsemi.com/pub_link/Collateral/EN7354-D.PDF
footprint ONSC-MCPH-3_V (SOT23, 3-Leads, Body 2x1.6mm, Pitch 0.65mm)
pins: 1 G, 2 S, 3 D

## MCH3376-TL-E
designator Q?
P-Channel Power MOSFET, -20 V, -1.5 A, 241 mOhm, 3-Pin MCPH, Pb-Free, Tape and Reel; Manufacturer: On Semiconductor; PartNumber: MCH3376-TL-E; Channel Polarity: P Channel; Ciss Typ (pF): 120; Configuration: Single; Coss Typ (pF): 26; Crss Typ (pF): 20; ID Max (A): 1.5; PD Max (W): 0.8; VGS Max (V): 10; VGS(th) Max (V): 1.4; PackageReference: MCPH-3; PackageDescription: 3-Pin Small Outline Transistor, Body 2 x 1.6 mm, Pitch 0.65 mm; Supplier 1: Digi-Key; Supplier Part Number 1: MCH3376-TL-E-ND; Supplier 2: Mouser; Supplier Part Number 2: 863-MCH3376-TL-E; Package Type: SC-70FL / MCPH-3; Packing: Tape and Reel; RoHS: Pb-Free; V(BR)DSS Min (V): 20; Mounting Technology: Surface Mount; ComponentLink1Description: Manufacturer URL; ComponentLink1URL: http://www.onsemi.com/; ComponentLink2Description: Datasheet; ComponentLink2URL: http://www.onsemi.cn/pub_link/Collateral/ENA1564-D.PDF; ComponentLink3Description: Package Specification; ComponentLink3URL: http://www.onsemi.com/pub_link/Collateral/EN7354-D.PDF
footprint ONSC-MCPH-3_V (SOT23, 3-Leads, Body 2x1.6mm, Pitch 0.65mm)
pins: 1 G, 2 S, 3 D

## MCH3377-TL-E
designator Q?
P-Channel Power MOSFET, -20 V, -3 A, 83 mOhm, 3-Pin MCPH, Pb-Free, Tape and Reel; Manufacturer: On Semiconductor; PartNumber: MCH3377-TL-E; Channel Polarity: P Channel; Ciss Typ (pF): 375; Configuration: Single; Coss Typ (pF): 77; Crss Typ (pF): 58; ID Max (A): 3; PD Max (W): 1; V(BR)DSS Min (V): 20; VGS Max (V): 10; VGS(th) Max (V): 1.3; PackageReference: MCPH-3; PackageDescription: 3-Pin Small Outline Transistor, Body 2 x 1.6 mm, Pitch 0.65 mm; Supplier 1: Digi-Key; Supplier Part Number 1: 869-1169-2-ND; Supplier 2: Digi-Key; Supplier Part Number 2: 869-1169-1-ND; Supplier 3: Digi-Key; Supplier Part Number 3: 869-1169-6-ND; Supplier 4: Mouser; Supplier Part Number 4: 863-MCH3377-TL-E; Package Type: SC-70FL / MCPH-3; Packing: Tape and Reel; RoHS: Pb-Free; Mounting Technology: Surface Mount; ComponentLink1Description: Manufacturer URL; ComponentLink1URL: http://www.onsemi.com/; ComponentLink2Description: Datasheet; ComponentLink2URL: http://www.onsemi.cn/pub_link/Collateral/MCH3377-D.PDF; ComponentLink3Description: Package Specification; ComponentLink3URL: http://www.onsemi.com/pub_link/Collateral/EN7354-D.PDF
footprint ONSC-MCPH-3_V (SOT23, 3-Leads, Body 2x1.6mm, Pitch 0.65mm)
pins: 1 G, 2 S, 3 D

## MCH3377-TL-H
designator Q?
P-Channel Power MOSFET, -20 V, -3 A, 83 mOhm, 3-Pin MCPH, Pb-Free, Tape and Reel; Manufacturer: On Semiconductor; PartNumber: MCH3377-TL-H; Channel Polarity: P Channel; Ciss Typ (pF): 375; Configuration: Single; Coss Typ (pF): 77; Crss Typ (pF): 58; ID Max (A): 3; PD Max (W): 1; V(BR)DSS Min (V): 20; VGS Max (V): 10; VGS(th) Max (V): 1.3; PackageReference: MCPH-3; PackageDescription: 3-Pin Small Outline Transistor, Body 2 x 1.6 mm, Pitch 0.65 mm; Supplier 1: Digi-Key; Supplier Part Number 1: MCH3377-TL-H-ND; Supplier 2: Mouser; Supplier Part Number 2: 863-MCH3377-TL-H; Package Type: SC-70FL / MCPH-3; Packing: Tape and Reel; RoHS: Pb-Free; Mounting Technology: Surface Mount; ComponentLink1Description: Manufacturer URL; ComponentLink1URL: http://www.onsemi.com/; ComponentLink2Description: Datasheet; ComponentLink2URL: http://www.onsemi.cn/pub_link/Collateral/MCH3377-D.PDF; ComponentLink3Description: Package Specification; ComponentLink3URL: http://www.onsemi.com/pub_link/Collateral/EN7354-D.PDF
footprint ONSC-MCPH-3_V (SOT23, 3-Leads, Body 2x1.6mm, Pitch 0.65mm)
pins: 1 G, 2 S, 3 D

## MCH3382-TL-H
designator Q?
P-Channel Power MOSFET, -12 V, -2 A, 198 mOhm, 3-Pin MCPH, Pb-Free, Tape and Reel; Manufacturer: On Semiconductor; PartNumber: MCH3382-TL-H; Channel Polarity: P Channel; Ciss Typ (pF): 170; Configuration: Single; Coss Typ (pF): 50; Crss Typ (pF): 40; ID Max (A): 2; PD Max (W): 0.8; V(BR)DSS Min (V): 12; VGS Max (V): 9; VGS(th) Max (V): 0.9; PackageReference: MCPH-3; PackageDescription: 3-Pin Small Outline Transistor, Body 2 x 1.6 mm, Pitch 0.65 mm; Supplier 1: Digi-Key; Supplier Part Number 1: MCH3382-TL-H-ND; Supplier 2: Mouser; Supplier Part Number 2: 863-MCH3382-TL-H; Package Type: SC-70FL / MCPH-3; Packing: Tape and Reel; RoHS: Pb-Free; Mounting Technology: Surface Mount; ComponentLink1Description: Manufacturer URL; ComponentLink1URL: http://www.onsemi.com/; ComponentLink2Description: Datasheet; ComponentLink2URL: http://www.onsemi.cn/pub_link/Collateral/ENA1766-D.PDF; ComponentLink3Description: Package Specification; ComponentLink3URL: http://www.onsemi.com/pub_link/Collateral/EN7354-D.PDF
footprint ONSC-MCPH-3_V (SOT23, 3-Leads, Body 2x1.6mm, Pitch 0.65mm)
pins: 1 G, 2 S, 3 D

## MCH3383-TL-H
designator Q?
P-Channel Power MOSFET, -12 V, -3.5 A, 69 mOhm, 3-Pin MCPH, Pb-Free, Tape and Reel; Manufacturer: On Semiconductor; PartNumber: MCH3383-TL-H; Channel Polarity: P Channel; Ciss Typ (pF): 1010; Configuration: Single; Coss Typ (pF): 130; Crss Typ (pF): 85; ID Max (A): 3.5; PD Max (W): 1; V(BR)DSS Min (V): 12; VGS Max (V): 5; VGS(th) Max (V): 0.8; PackageReference: MCPH-3; PackageDescription: 3-Pin Small Outline Transistor, Body 2 x 1.6 mm, Pitch 0.65 mm; Supplier 1: Digi-Key; Supplier Part Number 1: MCH3383-TL-H-ND; Supplier 2: Newark; Supplier Part Number 2: 52T8086; Supplier 3: Mouser; Supplier Part Number 3: 863-MCH3383-TL-H; Package Type: SC-70FL / MCPH-3; Packing: Tape and Reel; RoHS: Pb-Free; Mounting Technology: Surface Mount; ComponentLink1Description: Manufacturer URL; ComponentLink1URL: http://www.onsemi.com/; ComponentLink2Description: Datasheet; ComponentLink2URL: http://www.onsemi.cn/pub_link/Collateral/MCH3383-D.PDF; ComponentLink3Description: Package Specification; ComponentLink3URL: http://www.onsemi.com/pub_link/Collateral/EN7354-D.PDF
footprint ONSC-MCPH-3_V (SOT23, 3-Leads, Body 2x1.6mm, Pitch 0.65mm)
pins: 1 G, 2 S, 3 D

## MCH3474-TL-E
designator Q?
N-Channel Power MOSFET, 30 V, 4 A, 50 mOhm, 3-Pin MCPH, Pb-Free, Tape and Reel; Manufacturer: On Semiconductor; PartNumber: MCH3474-TL-E; Channel Polarity: N Channel; Ciss Typ (pF): 430; Configuration: Single; Coss Typ (pF): 59; Crss Typ (pF): 38; ID Max (A): 4; PD Max (W): 1; V(BR)DSS Min (V): 30; VGS Max (V): 12; VGS(th) Max (V): 1.3; PackageReference: MCPH-3; PackageDescription: 3-Pin Small Outline Transistor, Body 2 x 1.6 mm, Pitch 0.65 mm; Supplier 1: Digi-Key; Supplier Part Number 1: MCH3474-TL-E-ND; Supplier 2: Mouser; Supplier Part Number 2: 863-MCH3474-TL-E; Package Type: SC-70FL / MCPH-3; Packing: Tape and Reel; RoHS: Pb-Free; Mounting Technology: Surface Mount; ComponentLink1Description: Manufacturer URL; ComponentLink1URL: http://www.onsemi.com/; ComponentLink2Description: Datasheet; ComponentLink2URL: http://www.onsemi.com/PowerSolutions/product.do?id=MCH3474; ComponentLink3Description: Package Specification; ComponentLink3URL: http://www.onsemi.com/pub_link/Collateral/EN7354-D.PDF
footprint ONSC-MCPH-3_V (SOT23, 3-Leads, Body 2x1.6mm, Pitch 0.65mm)
pins: 1 G, 2 S, 3 D